# EAGLE library part LH5264 (library Game Boy)
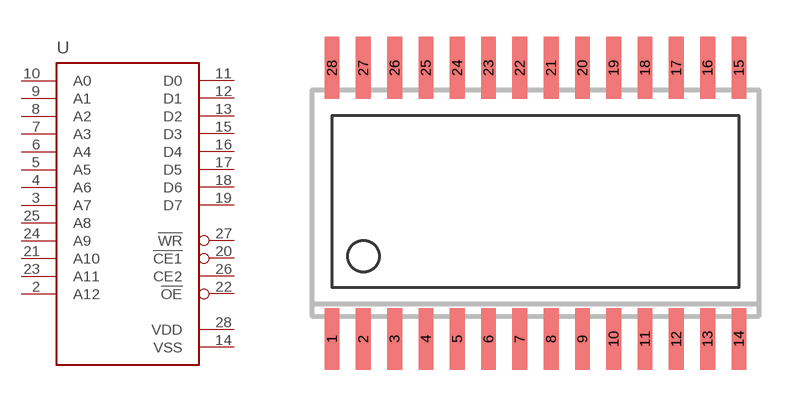
[diagram p6: symbol with the pads of SO28; footprint SO28]

Designator prefix -

## LH5264  [SO28]
2  A12  in
3  A7  in
4  A6  in
5  A5  in
6  A4  in
7  A3  in
8  A2  in
9  A1  in
10  A0  in
11  D0
12  D1
13  D2
14  VSS  pwr
15  D3
16  D4
17  D5
18  D6
19  D7
20  !CE1  in
21  A10  in
22  !OE  in
23  A11  in
24  A9  in
25  A8  in
26  CE2  in
27  !WR  in
28  VDD  pwr

## Footprint SO28 (pad centres in mm)
smd 0.6 x 2.5: 1 -8.255,-5.5; 2 -6.985,-5.5; 3 -5.715,-5.5; 4 -4.445,-5.5; 5 -3.175,-5.5; 6 -1.905,-5.5; 7 -0.635,-5.5; 8 0.635,-5.5; 9 1.905,-5.5; 10 3.175,-5.5; 11 4.445,-5.5; 12 5.715,-5.5; 13 6.985,-5.5; 14 8.255,-5.5; 15 8.255,5.5; 16 6.985,5.5; 17 5.715,5.5; 18 4.445,5.5; 19 3.175,5.5; 20 1.905,5.5; 21 0.635,5.5; 22 -0.635,5.5; 23 -1.905,5.5; 24 -3.175,5.5; 25 -4.445,5.5; 26 -5.715,5.5; 27 -6.985,5.5; 28 -8.255,5.5